# Altium schematic symbol library CAP POL 1000uF.Schlib: 1 symbol
Pins are listed as number, name and electrical type; pins without a type are passive.

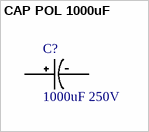
[diagram p0: symbol CAP POL 1000uF]

## CAP POL 1000uF
designator C?, comment 1000uF 250V
United Chemi-Con / ESMQ251VSN102MQ45S
pins: NEG, POS